# Altium footprint library SOT223-4P230_700X166L90X71N.PcbLib: 1 footprints
Each footprint in its own frame and in the unit in brackets; x right, y up, seen from the top. Pads: shape width x height; smd on the part's side, far side on the other; paste and mask are expansions set on the pad; w line width, h text height; cw(c..) or ccw(c..) is an arc to the next point about the centre after c.
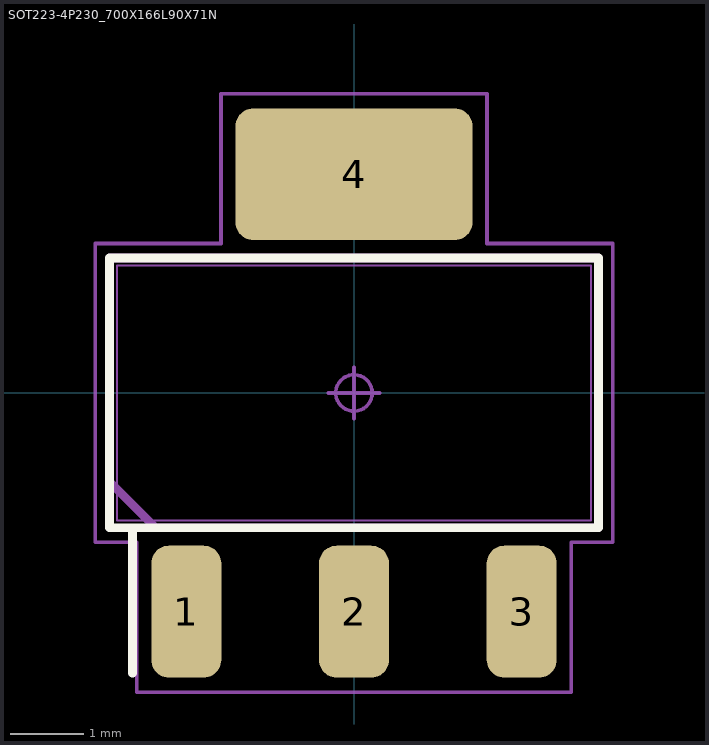
[diagram p0: the footprint, top view; thin cyan lines are the x and y axes]

## SOT223-4P230_700X166L90X71N [mm] "Small Outline Transistor, SOT-223 Type, 2.30 mm pitch; 4 pin, 6.50 mm L X 3.50 mm W X 1.80 mm H Body"
height 1.8
pads (4):
  rrect50% 0.959x1.81 smd: 1(-2.3,-3) 2(0,-3) 3(2.3,-3)
  rrect27% 3.249x1.81 smd: 4(0,3)
Top Overlay:
  lines w0.12: -3.04,-3.845 -3.04,-1.85 ; -3.355,-1.85 3.355,-1.85 3.355,1.85 -3.355,1.85 -3.355,-1.85
Mechanical 3:
  lines w0.12: -3.35,-1.222 -3.35,1.85 3.35,1.85 3.35,-1.85 -2.722,-1.85 -3.35,-1.222
Mechanical 5:
  lines w0.025: -3.25,-1.75 3.25,-1.75 3.25,1.75 -3.25,1.75 -3.25,-1.75 ; -2.655,-3.5 -2.655,-2.6 -1.945,-2.6 -1.945,-3.5 -2.655,-3.5 ; -1.5,2.6 -1.5,3.5 1.5,3.5 1.5,2.6 -1.5,2.6 ; -0.355,-3.5 -0.355,-2.6 0.355,-2.6 0.355,-3.5 -0.355,-3.5 ; 1.945,-3.5 1.945,-2.6 2.655,-2.6 2.655,-3.5 1.945,-3.5
Mechanical 7:
  circle w0.05: c0,0 r0.25
  lines w0.05: -0.35,0 0.35,0 ; 0,-0.35 0,0.35 ; -3.55,-2.05 -2.98,-2.05 -2.98,-4.105 2.98,-4.105 2.98,-2.05 3.55,-2.05 3.55,2.05 1.825,2.05 1.825,4.105 -1.825,4.105 -1.825,2.05 -3.55,2.05 -3.55,-2.05
Mechanical 9:
  text "'.Designator'" at -5.69,-0.271 h1.02
3D body "SOT223-4P230_700X166L90X71.STEP": height 1.8, standoff 0, extent -3.25,-3.5 3.25,3.5
3D body: height 1.8, standoff 0, extent -3.55,-4.105 3.55,4.105